# EAGLE library part PTA-06 (library con-phoenix-500)
RECEPTACAL
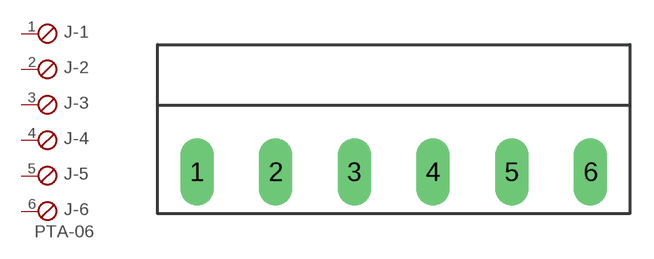
[diagram p5: symbol with the pads of PTA-06; footprint PTA-06]

Designator prefix J; gates -1=SKB -2=SKB -3=SKB -4=SKB -5=SKB -6=SKBV

## PTA-06  [PTA-06]
1  -1:1  pas
2  -2:1  pas
3  -3:1  pas
4  -4:1  pas
5  -5:1  pas
6  -6:1  pas

## Footprint PTA-06 (pad centres in mm)
RECEPTACAL
drill 1.422 long: 1 -12.5,0; 2 -7.5,0; 3 -2.5,0; 4 2.5,0; 5 7.5,0; 6 12.5,0